# Altium footprint library SOT-363.PCBLIB: 1 footprints
Each footprint in its own frame and in the unit in brackets; x right, y up, seen from the top. Pads: shape width x height; smd on the part's side, far side on the other; paste and mask are expansions set on the pad; w line width, h text height; cw(c..) or ccw(c..) is an arc to the next point about the centre after c.
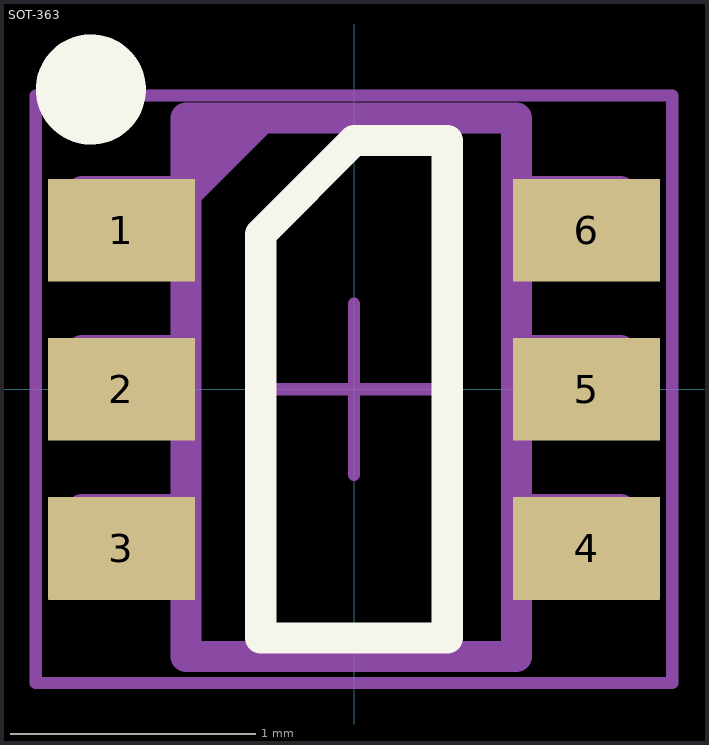
[diagram p0: the footprint, top view; thin cyan lines are the x and y axes]

## SOT-363 [mm]
pads (6):
  rrect1% 0.6x0.42 smd: 1(-0.95,0.65) 2(-0.95,0) 3(-0.95,-0.65) 4(0.95,-0.65) 5(0.95,0) 6(0.95,0.65)
Top Overlay:
  circle w0.25: c-1.075,1.225 r0.1
  lines w0.127: -0.381,-1.016 0.381,-1.016 0.381,1.016 0,1.016 -0.381,0.635 -0.381,-1.016
Top Assembly:
  region: -0.635,1.143 -0.254,1.143 -0.635,0.762
  lines w0.127: -0.686,-0.792 -0.76,-0.792 -0.902,-0.792 -1.111,-0.792 -1.111,-0.492 -0.902,-0.492 -0.76,-0.492 -0.686,-0.492 ; -0.686,-0.142 -0.76,-0.142 -0.902,-0.142 -1.111,-0.142 -1.111,0.158 -0.902,0.158 -0.76,0.158 -0.686,0.158 ; -0.686,0.508 -0.76,0.508 -0.902,0.508 -1.111,0.508 -1.111,0.808 -0.902,0.808 -0.76,0.808 -0.686,0.808 ; 0.664,-0.792 0.738,-0.792 0.88,-0.792 1.089,-0.792 1.089,-0.492 0.88,-0.492 0.738,-0.492 0.664,-0.492 ; 0.664,-0.142 0.738,-0.142 0.88,-0.142 1.089,-0.142 1.089,0.158 0.88,0.158 0.738,0.158 0.664,0.158 ; 0.664,0.508 0.738,0.508 0.88,0.508 1.089,0.508 1.089,0.808 0.88,0.808 0.738,0.808 0.664,0.808 ; -0.686,-1.092 0.664,-1.092 0.664,1.108 -0.686,1.108 -0.686,-1.092
Top Courtyard:
  lines w0.05: -1.3,-1.2 -1.3,1.2 1.3,1.2 1.3,-1.2 -1.3,-1.2
Top Designator:
  text ".Designator" at -0.203,0.889 h0.51
Top Component Center:
  lines w0.05: -0.35,0 0.35,0 ; 0,-0.35 0,0.35
3D body "SOT-363.stp": height 1.12, standoff 0.01, extent -1.1,-1.1 1.1,1.1